# EAGLE library part LM1881MX_NOPB (library LM1881MX_NOPB)
Video Sync Separator Source: Datasheet <https://www.arrow.com/en/products/lm1881mxnopb/texas-instruments?utm_currency=USD&region=nac>
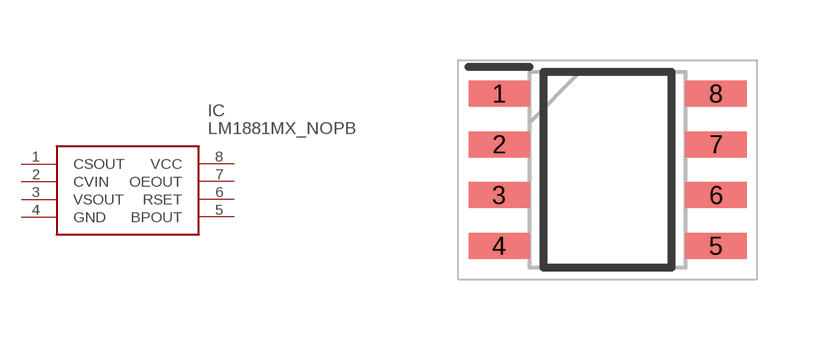
[diagram p0: symbol with the pads of SOIC127P600X175-8N; footprint SOIC127P600X175-8N]

Designator prefix IC

## LM1881MX_NOPB (Arrow_Part_Number: LM1881MX/NOPB; Arrow_Price-Stock: https://www.arrow.com/en/products/lm1881mxnopb/texas-instruments?utm_currency=USD&region=nac; Description: Video Sync Separator; Height: 1.75mm; Manufacturer_Name: Texas Instruments; Manufacturer_Part_Number: LM1881MX/NOPB)  [SOIC127P600X175-8N]
1  CSOUT
2  CVIN
3  VSOUT
4  GND
5  BPOUT
6  RSET
7  OEOUT
8  VCC

## Footprint SOIC127P600X175-8N (pad centres in mm)
D0008A height 1.75
smd 1.528 x 0.65: 1 -2.711,1.905; 2 -2.711,0.635; 3 -2.711,-0.635; 4 -2.711,-1.905; 5 2.711,-1.905; 6 2.711,-0.635; 7 2.711,0.635; 8 2.711,1.905